# Altium integrated library Linear Technology Power Management uModule Regulators.IntLib: 166 symbols (part 39 of 67)
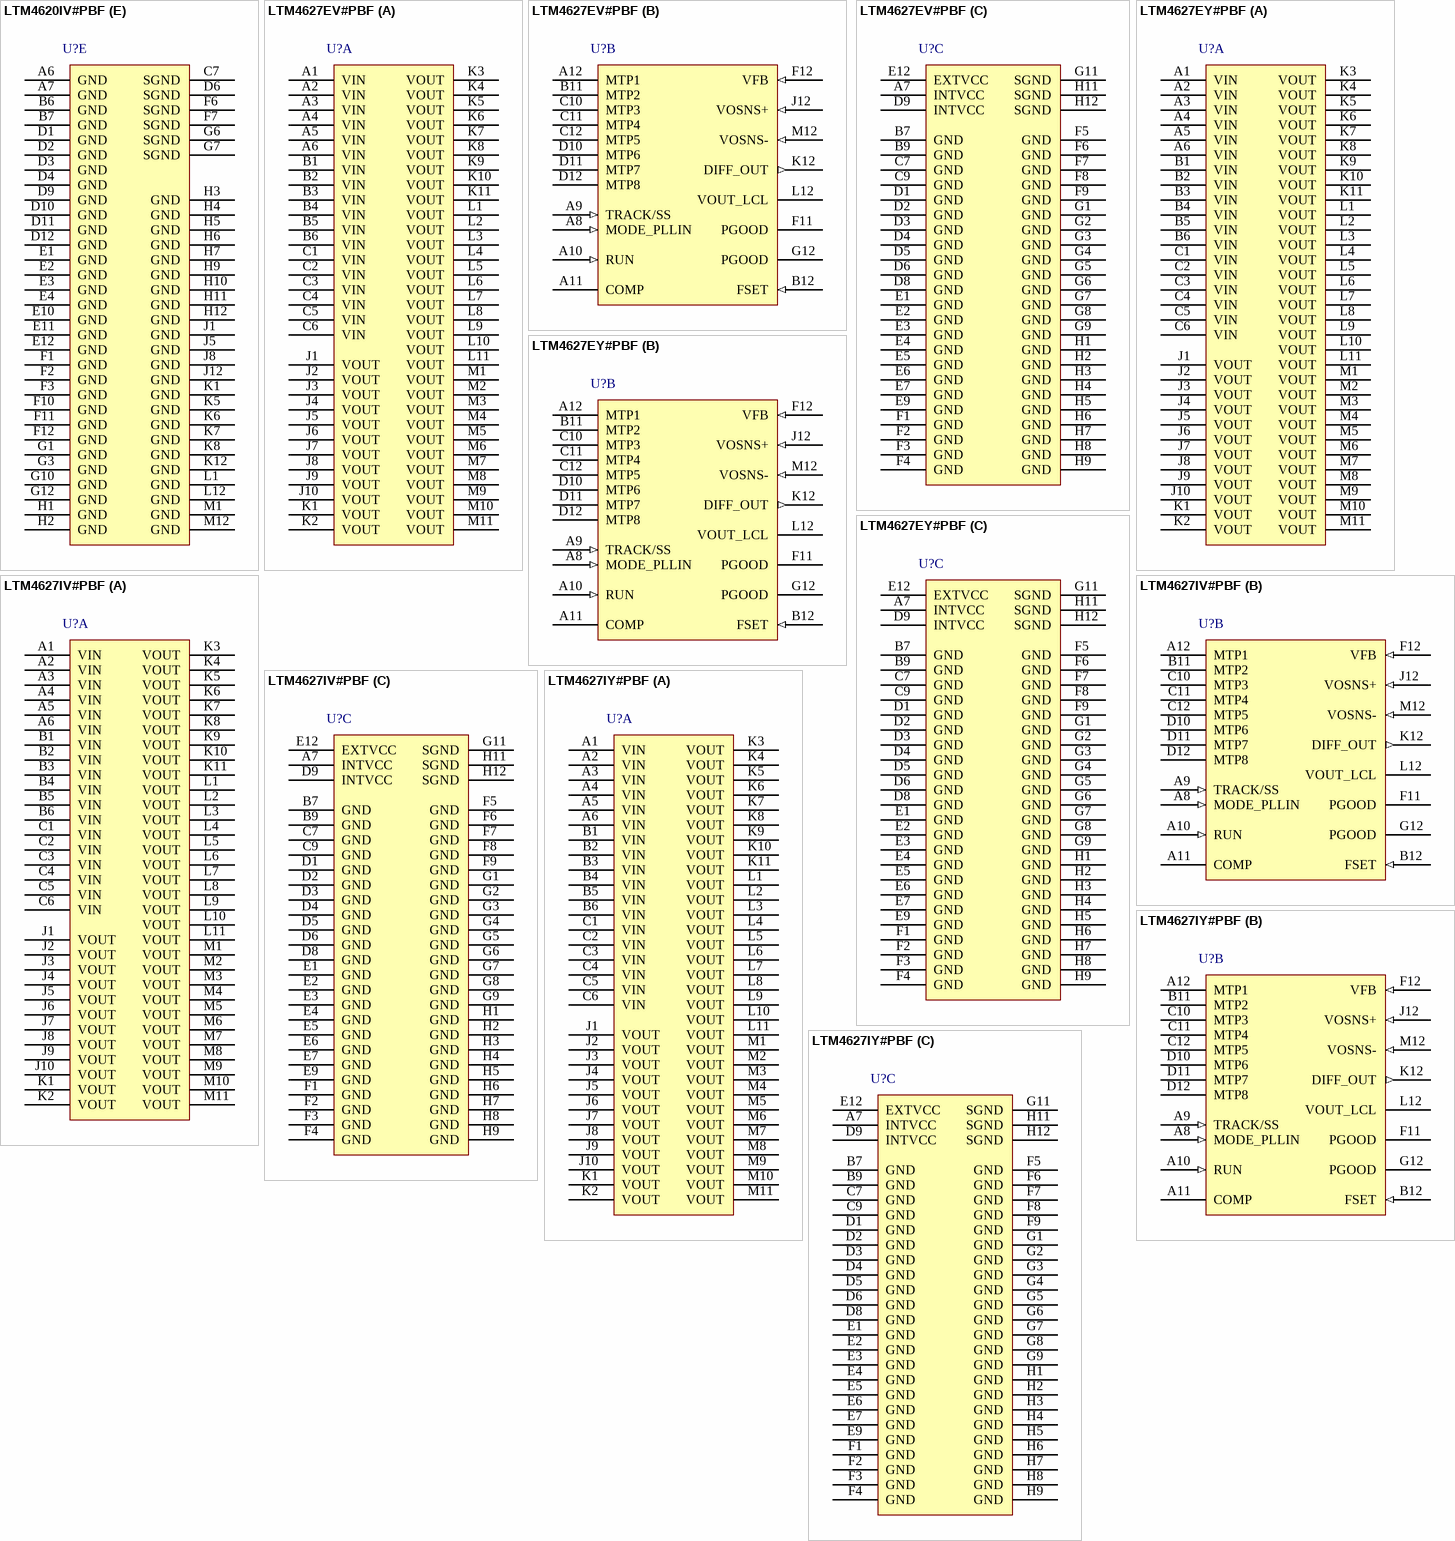
[diagram p65: symbols LTM4620IV#PBF to LTM4627IY#PBF]

## LTM4627IY#PBF
designator U?
15 A DC/DC uModule Regulator, 133-pin BGA, -40 to 125 degC, Pb-Free, Tray; Manufacturer: Linear Technology; PartNumber: LTM4627IY#PBF; Extended Temp: E, I, MP; Frequency Adjust Range: 250kHz - 800kHz; Frequency Sync Range: 400kHz - 800kHz; Frequency(kHz): 500; Ishutdown(uA): 40; Isupply(mA): 17; Number of Outputs: 1; Output Current(A): 15; Switch Current(A): 50; Synchronous: yes; Topology: Buck; Vin Max(V): 20; Vin Min(V): 4.5; Vout Max(V): 5; Vout Min(V): 0.6; DatasheetVersion: Rev. B; PackageVersion: Rev. A, 01/2013; PackageReference: BGA-133; PackageDescription: 133-Ball BGA, Body 15 x 15 mm, Pitch 1.27 mm; Supplier 1: Digi-Key; Supplier Part Number 1: LTM4627IY#PBF-ND; Supplier 2: Farnell; Supplier Part Number 2: 2068080; Supplier 3: Newark; Supplier Part Number 3: 78T3664; Packing: Tray; RoHS: TRUE; Mounting Technology: Surface Mount; Code_JEDEC: MS-028; ComponentLink1Description: Manufacturer URL; ComponentLink1URL: http://www.linear.com/; ComponentLink2Description: Datasheet; ComponentLink2URL: http://cds.linear.com/docs/en/datasheet/4627fb.pdf; ComponentLink3Description: Package Specification; ComponentLink3URL: http://cds.linear.com/docs/en/packaging/05081897_A_bga133.pdf
footprint LT-BGA-133-05-08-1897 (BGA, 133-Balls, Body 15x15mm, Pitch 1.27mm)
part A pins: A1 VIN (power) "Power Input Pins.", A2 VIN (power) "Power Input Pins.", A3 VIN (power) "Power Input Pins.", A4 VIN (power) "Power Input Pins.", A5 VIN (power) "Power Input Pins.", A6 VIN (power) "Power Input Pins.", B1 VIN (power) "Power Input Pins. Apply input voltage between these pins and GND pins.", B2 VIN (power) "Power Input Pins. Apply input voltage between these pins and GND pins.", B3 VIN (power) "Power Input Pins. Apply input voltage between these pins and GND pins.", B4 VIN (power) "Power Input Pins. Apply input voltage between these pins and GND pins.", B5 VIN (power) "Power Input Pins. Apply input voltage between these pins and GND pins.", B6 VIN (power) "Power Input Pins. Apply input voltage between these pins and GND pins.", C1 VIN (power) "Power Input Pins. Apply input voltage between these pins and GND pins.", C2 VIN (power) "Power Input Pins. Apply input voltage between these pins and GND pins.", C3 VIN (power) "Power Input Pins. Apply input voltage between these pins and GND pins.", C4 VIN (power) "Power Input Pins. Apply input voltage between these pins and GND pins.", C5 VIN (power) "Power Input Pins. Apply input voltage between these pins and GND pins.", C6 VIN (power) "Power Input Pins. Apply input voltage between these pins and GND pins.", J1 VOUT (power) "Power Output Pins. Apply output load between these pins and GND pins.", J2 VOUT (power) "Power Output Pins. Apply output load between these pins and GND pins.", J3 VOUT (power) "Power Output Pins. Apply output load between these pins and GND pins.", J4 VOUT (power) "Power Output Pins. Apply output load between these pins and GND pins.", J5 VOUT (power) "Power Output Pins. Apply output load between these pins and GND pins.", J6 VOUT (power) "Power Output Pins. Apply output load between these pins and GND pins.", J7 VOUT (power) "Power Output Pins. Apply output load between these pins and GND pins.", J8 VOUT (power) "Power Output Pins. Apply output load between these pins and GND pins.", J9 VOUT (power) "Power Output Pins. Apply output load between these pins and GND pins.", J10 VOUT (power) "Power Output Pins. Apply output load between these pins and GND pins.", K1 VOUT (power) "Power Output Pins. Apply output load between these pins and GND pins.", K2 VOUT (power) "Power Output Pins. Apply output load between these pins and GND pins.", K3 VOUT (power) "Power Output Pins. Apply output load between these pins and GND pins.", K4 VOUT (power) "Power Output Pins. Apply output load between these pins and GND pins.", K5 VOUT (power) "Power Output Pins. Apply output load between these pins and GND pins.", K6 VOUT (power) "Power Output Pins. Apply output load between these pins and GND pins.", K7 VOUT (power) "Power Output Pins. Apply output load between these pins and GND pins.", K8 VOUT (power) "Power Output Pins. Apply output load between these pins and GND pins.", K9 VOUT (power) "Power Output Pins. Apply output load between these pins and GND pins.", K10 VOUT (power) "Power Output Pins. Apply output load between these pins and GND pins.", K11 VOUT (power) "Power Output Pins. Apply output load between these pins and GND pins.", L1 VOUT (power) "Power Output Pins. Apply output load between these pins and GND pins.", L2 VOUT (power) "Power Output Pins. Apply output load between these pins and GND pins.", L3 VOUT (power) "Power Output Pins. Apply output load between these pins and GND pins.", L4 VOUT (power) "Power Output Pins. Apply output load between these pins and GND pins.", L5 VOUT (power) "Power Output Pins. Apply output load between these pins and GND pins.", L6 VOUT (power) "Power Output Pins. Apply output load between these pins and GND pins.", L7 VOUT (power) "Power Output Pins. Apply output load between these pins and GND pins.", L8 VOUT (power) "Power Output Pins. Apply output load between these pins and GND pins.", L9 VOUT (power) "Power Output Pins. Apply output load between these pins and GND pins.", L10 VOUT (power) "Power Output Pins. Apply output load between these pins and GND pins.", L11 VOUT (power) "Power Output Pins. Apply output load between these pins and GND pins.", M1 VOUT (power) "Power Output Pins. Apply output load between these pins and GND pins.", M2 VOUT (power) "Power Output Pins. Apply output load between these pins and GND pins.", M3 VOUT (power) "Power Output Pins. Apply output load between these pins and GND pins.", M4 VOUT (power) "Power Output Pins. Apply output load between these pins and GND pins.", M5 VOUT (power) "Power Output Pins. Apply output load between these pins and GND pins.", M6 VOUT (power) "Power Output Pins. Apply output load between these pins and GND pins.", M7 VOUT (power) "Power Output Pins. Apply output load between these pins and GND pins.", M8 VOUT (power) "Power Output Pins. Apply output load between these pins and GND pins.", M9 VOUT (power) "Power Output Pins. Apply output load between these pins and GND pins.", M10 VOUT (power) "Power Output Pins. Apply output load between these pins and GND pins.", M11 VOUT (power) "Power Output Pins. Apply output load between these pins and GND pins."
part B pins: A8 MODE_PLLIN (in) "Forced Continuous Mode, Burst Mode Operation, or Pulse-Skipping Mode Selection Pin and External Synchronization Input to Phase Detector Pin.", A9 TRACK/SS (in), A10 RUN (in) "Run Control Pin. A voltage above 1.4V will turn on the module. A 5.1V Zener diode to ground is internal to the module for limiting the voltage on the RUN pin to 5V, and allowing a pull up resistor to VIN for enabling the (See Datasheet)", A11 COMP "Current Control Threshold and Error Amplifier Compensation Point. The current comparator threshold increases with this control voltage. Tie all COMP pins together for parallel operation. The device is internally compensated.", A12 MTP1 "Extra mounting pads used for increased solder integrity strength.", B11 MTP2 "Extra mounting pads used for increased solder integrity strength.", B12 FSET (in) "A resistor can be applied from this pin to ground to set the operating frequency, or a DC voltage can be applied to set the frequency. See the Applications Information section.", C10 MTP3 "Extra mounting pads used for increased solder integrity strength.", C11 MTP4 "Extra mounting pads used for increased solder integrity strength.", C12 MTP5 "Extra mounting pads used for increased solder integrity strength.", D10 MTP6 "Extra mounting pads used for increased solder integrity strength.", D11 MTP7 "Extra mounting pads used for increased solder integrity strength.", D12 MTP8 "Extra mounting pads used for increased solder integrity strength.", F11 PGOOD (oc) "Output Voltage Power Good Indicator.", F12 VFB (in) "The Negative Input of the Error Amplifier. Internally, this pin is connected to VOUT_LCL with a 60.4k precision resistor. Different output voltages can be programmed with an additional resistor between the VFB and GND pins. (See Datasheet)", G12 PGOOD (oc) "Output Voltage Power Good Indicator.", J12 VOSNS+ (in) "(+) Input to the Remote Sense Amplifier. This pin connects to the output remote sense point. The remote sense amplifier is used for VOUT <= 3.3V. Connect to ground when not used.", K12 DIFF_OUT (out) "Output of the Remote Sense Amplifier. This pin connects to the VOUT_LCL pin for remote sense applications. Otherwise float when not used.", L12 VOUT_LCL "This pin connects to VOUT through a 1M resistor and to VFB with a 60.4k resistor. The remote sense amplifier output DIFFVOUT is connected to VOUT_LCL, and drives the 60.4k top feedback resistor in remote sensing applications.(See Datasheet)", M12 VOSNS- (in) "(-) Input to the Remote Sense Amplifier. This pin connects to the ground remote sense point. The remote sense amplifier is used for VOUT = 3.3V. Connect to ground when not used."
part C pins: A7 INTVCC (power) "Internal 5V LDO for Driving the Control Circuitry and the Power MOSFET Drivers. Both pins are internally connected.", B7 GND (power) "Power Ground Pins for Both Input and Output Returns.", B9 GND (power) "Power Ground Pins for Both Input and Output Returns.", C7 GND (power) "Power Ground Pins for Both Input and Output Returns.", C9 GND (power) "Power Ground Pins for Both Input and Output Returns.", D1 GND (power) "Power Ground Pins for Both Input and Output Returns.", D2 GND (power) "Power Ground Pins for Both Input and Output Returns.", D3 GND (power) "Power Ground Pins for Both Input and Output Returns.", D4 GND (power) "Power Ground Pins for Both Input and Output Returns.", D5 GND (power) "Power Ground Pins for Both Input and Output Returns.", D6 GND (power) "Power Ground Pins for Both Input and Output Returns.", D8 GND (power) "Power Ground Pins for Both Input and Output Returns.", D9 INTVCC (power) "Internal 5V LDO for Driving the Control Circuitry and the Power MOSFET Drivers. Both pins are internally connected.", E1 GND (power) "Power Ground Pins for Both Input and Output Returns.", E2 GND (power) "Power Ground Pins for Both Input and Output Returns.", E3 GND (power) "Power Ground Pins for Both Input and Output Returns.", E4 GND (power) "Power Ground Pins for Both Input and Output Returns.", E5 GND (power) "Power Ground Pins for Both Input and Output Returns.", E6 GND (power) "Power Ground Pins for Both Input and Output Returns.", E7 GND (power) "Power Ground Pins for Both Input and Output Returns.", E9 GND (power) "Power Ground Pins for Both Input and Output Returns.", E12 EXTVCC (power) "External power input to an internal control switch allows an external source greater than 4.7V, but less than 6V to supply IC power and bypass the internal INTVCC LDO. EXTVCC must be less than VIN at all times during (See Datasheet)", F1 GND (power) "Power Ground Pins for Both Input and Output Returns.", F2 GND (power) "Power Ground Pins for Both Input and Output Returns.", F3 GND (power) "Power Ground Pins for Both Input and Output Returns.", F4 GND (power) "Power Ground Pins for Both Input and Output Returns.", F5 GND (power) "Power Ground Pins for Both Input and Output Returns.", F6 GND (power) "Power Ground Pins for Both Input and Output Returns.", F7 GND (power) "Power Ground Pins for Both Input and Output Returns.", F8 GND (power) "Power Ground Pins for Both Input and Output Returns.", F9 GND (power) "Power Ground Pins for Both Input and Output Returns.", G1 GND (power) "Power Ground Pins for Both Input and Output Returns.", G2 GND (power) "Power Ground Pins for Both Input and Output Returns.", G3 GND (power) "Power Ground Pins for Both Input and Output Returns.", G4 GND (power) "Power Ground Pins for Both Input and Output Returns.", G5 GND (power) "Power Ground Pins for Both Input and Output Returns.", G6 GND (power) "Power Ground Pins for Both Input and Output Returns.", G7 GND (power) "Power Ground Pins for Both Input and Output Returns.", G8 GND (power) "Power Ground Pins for Both Input and Output Returns.", G9 GND (power) "Power Ground Pins for Both Input and Output Returns.", G11 SGND (power) "Signal Ground Pin. Return ground path for all analog and low power circuitry. Tie a single connection to the output capacitor GND in the application. See the layout guidelines in Figure 17.", H1 GND (power) "Power Ground Pins for Both Input and Output Returns.", H2 GND (power) "Power Ground Pins for Both Input and Output Returns.", H3 GND (power) "Power Ground Pins for Both Input and Output Returns.", H4 GND (power) "Power Ground Pins for Both Input and Output Returns.", H5 GND (power) "Power Ground Pins for Both Input and Output Returns.", H6 GND (power) "Power Ground Pins for Both Input and Output Returns.", H7 GND (power) "Power Ground Pins for Both Input and Output Returns.", H8 GND (power) "Power Ground Pins for Both Input and Output Returns.", H9 GND (power) "Power Ground Pins for Both Input and Output Returns.", H11 SGND (power) "Signal Ground Pin. Return ground path for all analog and low power circuitry. Tie a single connection to the output capacitor GND in the application. See the layout guidelines in Figure 17.", H12 SGND (power) "Signal Ground Pin. Return ground path for all analog and low power circuitry. Tie a single connection to the output capacitor GND in the application. See the layout guidelines in Figure 17."

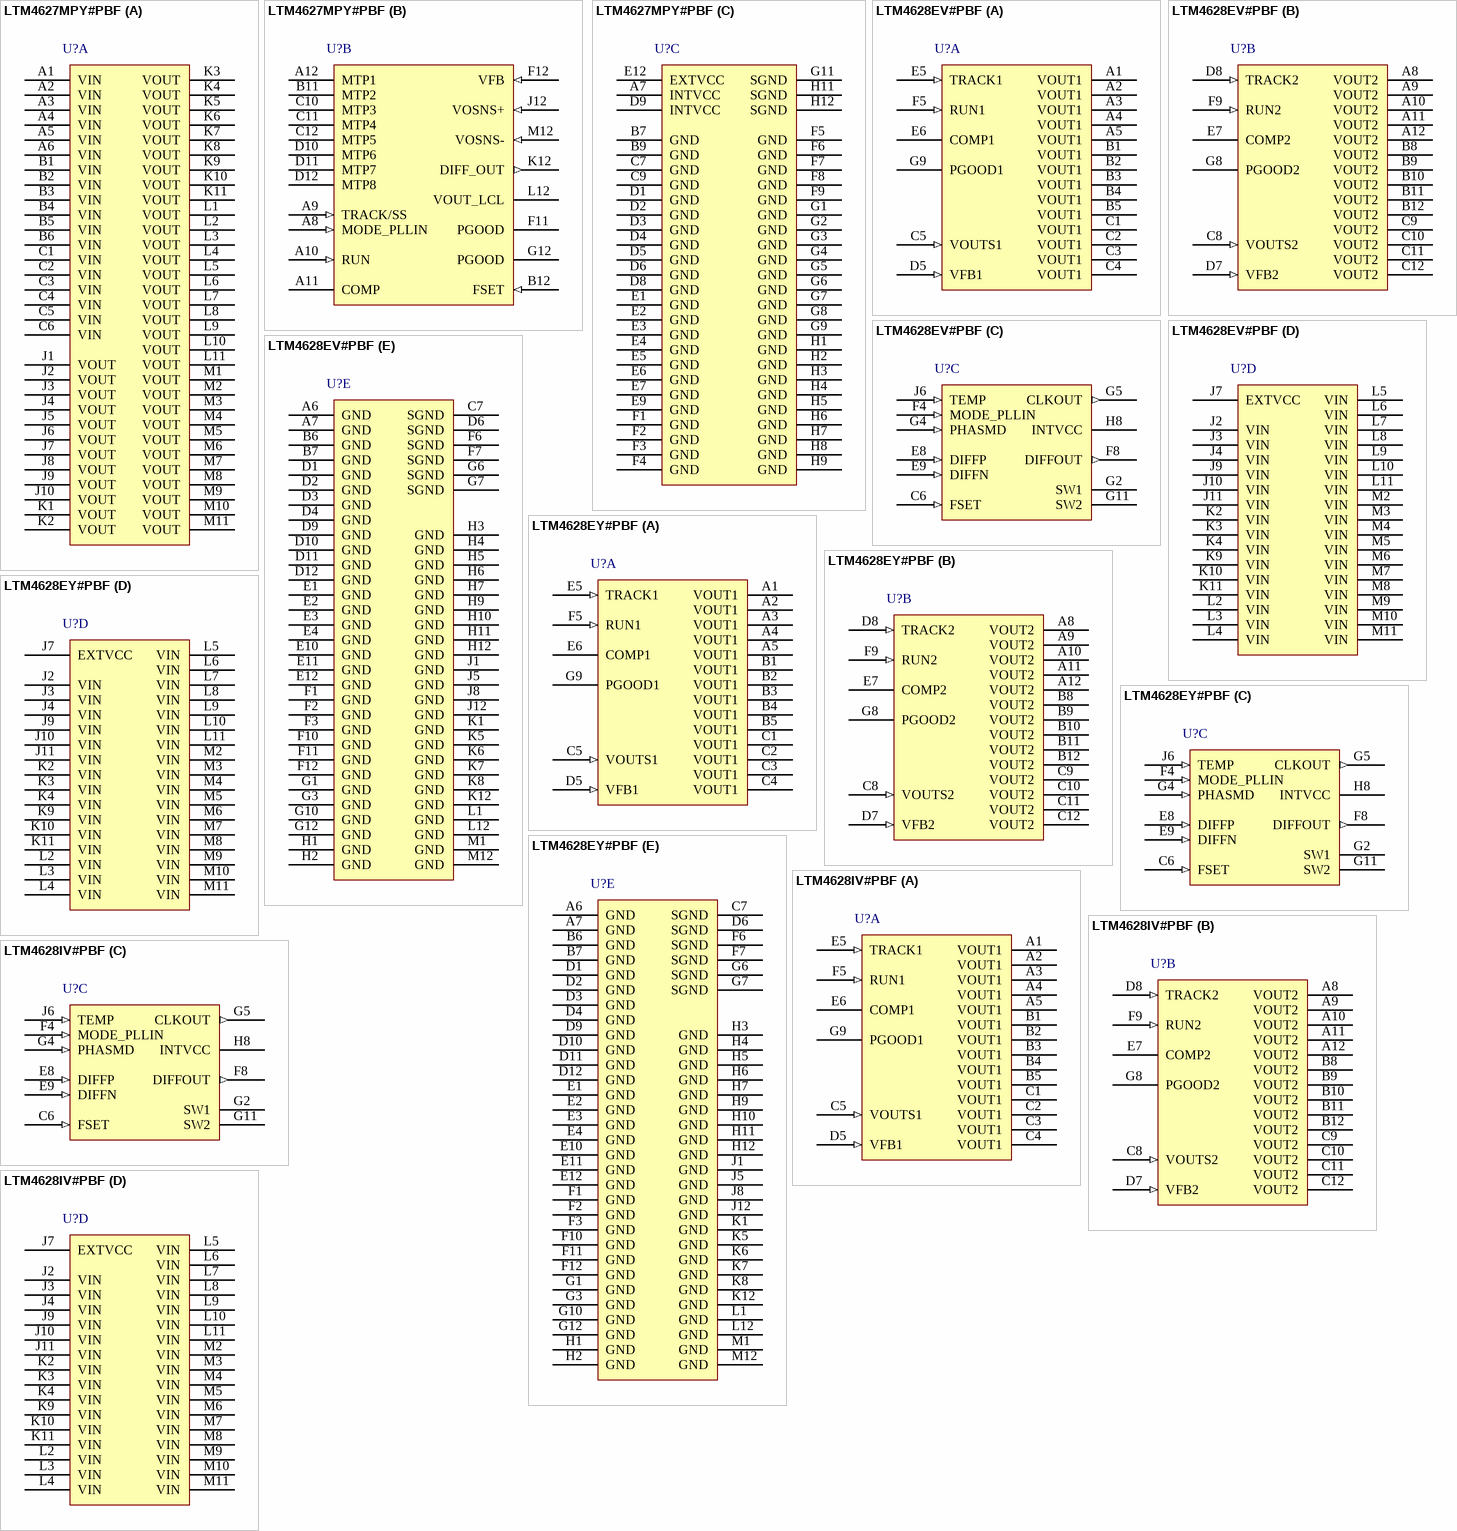
[diagram p18: symbols LTM4627MPY#PBF to LTM4628IV#PBF]

## LTM4627MPY#PBF
designator U?
15 A DC/DC uModule Regulator, 133-pin BGA, -55 to 125 degC, Pb-Free, Tray; Manufacturer: Linear Technology; PartNumber: LTM4627MPY#PBF; Extended Temp: E, I, MP; Frequency Adjust Range: 250kHz - 800kHz; Frequency Sync Range: 400kHz - 800kHz; Frequency(kHz): 500; Ishutdown(uA): 40; Isupply(mA): 17; Number of Outputs: 1; Output Current(A): 15; Switch Current(A): 50; Synchronous: yes; Topology: Buck; Vin Max(V): 20; Vin Min(V): 4.5; Vout Max(V): 5; Vout Min(V): 0.6; DatasheetVersion: Rev. B; PackageVersion: Rev. A, 01/2013; PackageReference: BGA-133; PackageDescription: 133-Ball BGA, Body 15 x 15 mm, Pitch 1.27 mm; Supplier 1: Digi-Key; Supplier Part Number 1: LTM4627MPY#PBF-ND; Supplier 2: Farnell; Supplier Part Number 2: 2068081; Supplier 3: Newark; Supplier Part Number 3: 78T3665; Packing: Tray; RoHS: TRUE; Mounting Technology: Surface Mount; Code_JEDEC: MS-028; ComponentLink1Description: Manufacturer URL; ComponentLink1URL: http://www.linear.com/; ComponentLink2Description: Datasheet; ComponentLink2URL: http://cds.linear.com/docs/en/datasheet/4627fb.pdf; ComponentLink3Description: Package Specification; ComponentLink3URL: http://cds.linear.com/docs/en/packaging/05081897_A_bga133.pdf
footprint LT-BGA-133-05-08-1897 (BGA, 133-Balls, Body 15x15mm, Pitch 1.27mm)
part A pins: A1 VIN (power) "Power Input Pins.", A2 VIN (power) "Power Input Pins.", A3 VIN (power) "Power Input Pins.", A4 VIN (power) "Power Input Pins.", A5 VIN (power) "Power Input Pins.", A6 VIN (power) "Power Input Pins.", B1 VIN (power) "Power Input Pins. Apply input voltage between these pins and GND pins.", B2 VIN (power) "Power Input Pins. Apply input voltage between these pins and GND pins.", B3 VIN (power) "Power Input Pins. Apply input voltage between these pins and GND pins.", B4 VIN (power) "Power Input Pins. Apply input voltage between these pins and GND pins.", B5 VIN (power) "Power Input Pins. Apply input voltage between these pins and GND pins.", B6 VIN (power) "Power Input Pins. Apply input voltage between these pins and GND pins.", C1 VIN (power) "Power Input Pins. Apply input voltage between these pins and GND pins.", C2 VIN (power) "Power Input Pins. Apply input voltage between these pins and GND pins.", C3 VIN (power) "Power Input Pins. Apply input voltage between these pins and GND pins.", C4 VIN (power) "Power Input Pins. Apply input voltage between these pins and GND pins.", C5 VIN (power) "Power Input Pins. Apply input voltage between these pins and GND pins.", C6 VIN (power) "Power Input Pins. Apply input voltage between these pins and GND pins.", J1 VOUT (power) "Power Output Pins. Apply output load between these pins and GND pins.", J2 VOUT (power) "Power Output Pins. Apply output load between these pins and GND pins.", J3 VOUT (power) "Power Output Pins. Apply output load between these pins and GND pins.", J4 VOUT (power) "Power Output Pins. Apply output load between these pins and GND pins.", J5 VOUT (power) "Power Output Pins. Apply output load between these pins and GND pins.", J6 VOUT (power) "Power Output Pins. Apply output load between these pins and GND pins.", J7 VOUT (power) "Power Output Pins. Apply output load between these pins and GND pins.", J8 VOUT (power) "Power Output Pins. Apply output load between these pins and GND pins.", J9 VOUT (power) "Power Output Pins. Apply output load between these pins and GND pins.", J10 VOUT (power) "Power Output Pins. Apply output load between these pins and GND pins.", K1 VOUT (power) "Power Output Pins. Apply output load between these pins and GND pins.", K2 VOUT (power) "Power Output Pins. Apply output load between these pins and GND pins.", K3 VOUT (power) "Power Output Pins. Apply output load between these pins and GND pins.", K4 VOUT (power) "Power Output Pins. Apply output load between these pins and GND pins.", K5 VOUT (power) "Power Output Pins. Apply output load between these pins and GND pins.", K6 VOUT (power) "Power Output Pins. Apply output load between these pins and GND pins.", K7 VOUT (power) "Power Output Pins. Apply output load between these pins and GND pins.", K8 VOUT (power) "Power Output Pins. Apply output load between these pins and GND pins.", K9 VOUT (power) "Power Output Pins. Apply output load between these pins and GND pins.", K10 VOUT (power) "Power Output Pins. Apply output load between these pins and GND pins.", K11 VOUT (power) "Power Output Pins. Apply output load between these pins and GND pins.", L1 VOUT (power) "Power Output Pins. Apply output load between these pins and GND pins.", L2 VOUT (power) "Power Output Pins. Apply output load between these pins and GND pins.", L3 VOUT (power) "Power Output Pins. Apply output load between these pins and GND pins.", L4 VOUT (power) "Power Output Pins. Apply output load between these pins and GND pins.", L5 VOUT (power) "Power Output Pins. Apply output load between these pins and GND pins.", L6 VOUT (power) "Power Output Pins. Apply output load between these pins and GND pins.", L7 VOUT (power) "Power Output Pins. Apply output load between these pins and GND pins.", L8 VOUT (power) "Power Output Pins. Apply output load between these pins and GND pins.", L9 VOUT (power) "Power Output Pins. Apply output load between these pins and GND pins.", L10 VOUT (power) "Power Output Pins. Apply output load between these pins and GND pins.", L11 VOUT (power) "Power Output Pins. Apply output load between these pins and GND pins.", M1 VOUT (power) "Power Output Pins. Apply output load between these pins and GND pins.", M2 VOUT (power) "Power Output Pins. Apply output load between these pins and GND pins.", M3 VOUT (power) "Power Output Pins. Apply output load between these pins and GND pins.", M4 VOUT (power) "Power Output Pins. Apply output load between these pins and GND pins.", M5 VOUT (power) "Power Output Pins. Apply output load between these pins and GND pins.", M6 VOUT (power) "Power Output Pins. Apply output load between these pins and GND pins.", M7 VOUT (power) "Power Output Pins. Apply output load between these pins and GND pins.", M8 VOUT (power) "Power Output Pins. Apply output load between these pins and GND pins.", M9 VOUT (power) "Power Output Pins. Apply output load between these pins and GND pins.", M10 VOUT (power) "Power Output Pins. Apply output load between these pins and GND pins.", M11 VOUT (power) "Power Output Pins. Apply output load between these pins and GND pins."
part B pins: A8 MODE_PLLIN (in) "Forced Continuous Mode, Burst Mode Operation, or Pulse-Skipping Mode Selection Pin and External Synchronization Input to Phase Detector Pin.", A9 TRACK/SS (in), A10 RUN (in) "Run Control Pin. A voltage above 1.4V will turn on the module. A 5.1V Zener diode to ground is internal to the module for limiting the voltage on the RUN pin to 5V, and allowing a pull up resistor to VIN for enabling the (See Datasheet)", A11 COMP "Current Control Threshold and Error Amplifier Compensation Point. The current comparator threshold increases with this control voltage. Tie all COMP pins together for parallel operation. The device is internally compensated.", A12 MTP1 "Extra mounting pads used for increased solder integrity strength.", B11 MTP2 "Extra mounting pads used for increased solder integrity strength.", B12 FSET (in) "A resistor can be applied from this pin to ground to set the operating frequency, or a DC voltage can be applied to set the frequency. See the Applications Information section.", C10 MTP3 "Extra mounting pads used for increased solder integrity strength.", C11 MTP4 "Extra mounting pads used for increased solder integrity strength.", C12 MTP5 "Extra mounting pads used for increased solder integrity strength.", D10 MTP6 "Extra mounting pads used for increased solder integrity strength.", D11 MTP7 "Extra mounting pads used for increased solder integrity strength.", D12 MTP8 "Extra mounting pads used for increased solder integrity strength.", F11 PGOOD (oc) "Output Voltage Power Good Indicator.", F12 VFB (in) "The Negative Input of the Error Amplifier. Internally, this pin is connected to VOUT_LCL with a 60.4k precision resistor. Different output voltages can be programmed with an additional resistor between the VFB and GND pins. (See Datasheet)", G12 PGOOD (oc) "Output Voltage Power Good Indicator.", J12 VOSNS+ (in) "(+) Input to the Remote Sense Amplifier. This pin connects to the output remote sense point. The remote sense amplifier is used for VOUT <= 3.3V. Connect to ground when not used.", K12 DIFF_OUT (out) "Output of the Remote Sense Amplifier. This pin connects to the VOUT_LCL pin for remote sense applications. Otherwise float when not used.", L12 VOUT_LCL "This pin connects to VOUT through a 1M resistor and to VFB with a 60.4k resistor. The remote sense amplifier output DIFFVOUT is connected to VOUT_LCL, and drives the 60.4k top feedback resistor in remote sensing applications.(See Datasheet)", M12 VOSNS- (in) "(-) Input to the Remote Sense Amplifier. This pin connects to the ground remote sense point. The remote sense amplifier is used for VOUT = 3.3V. Connect to ground when not used."
part C pins: A7 INTVCC (power) "Internal 5V LDO for Driving the Control Circuitry and the Power MOSFET Drivers. Both pins are internally connected.", B7 GND (power) "Power Ground Pins for Both Input and Output Returns.", B9 GND (power) "Power Ground Pins for Both Input and Output Returns.", C7 GND (power) "Power Ground Pins for Both Input and Output Returns.", C9 GND (power) "Power Ground Pins for Both Input and Output Returns.", D1 GND (power) "Power Ground Pins for Both Input and Output Returns.", D2 GND (power) "Power Ground Pins for Both Input and Output Returns.", D3 GND (power) "Power Ground Pins for Both Input and Output Returns.", D4 GND (power) "Power Ground Pins for Both Input and Output Returns.", D5 GND (power) "Power Ground Pins for Both Input and Output Returns.", D6 GND (power) "Power Ground Pins for Both Input and Output Returns.", D8 GND (power) "Power Ground Pins for Both Input and Output Returns.", D9 INTVCC (power) "Internal 5V LDO for Driving the Control Circuitry and the Power MOSFET Drivers. Both pins are internally connected.", E1 GND (power) "Power Ground Pins for Both Input and Output Returns.", E2 GND (power) "Power Ground Pins for Both Input and Output Returns.", E3 GND (power) "Power Ground Pins for Both Input and Output Returns.", E4 GND (power) "Power Ground Pins for Both Input and Output Returns.", E5 GND (power) "Power Ground Pins for Both Input and Output Returns.", E6 GND (power) "Power Ground Pins for Both Input and Output Returns.", E7 GND (power) "Power Ground Pins for Both Input and Output Returns.", E9 GND (power) "Power Ground Pins for Both Input and Output Returns.", E12 EXTVCC (power) "External power input to an internal control switch allows an external source greater than 4.7V, but less than 6V to supply IC power and bypass the internal INTVCC LDO. EXTVCC must be less than VIN at all times during (See Datasheet)", F1 GND (power) "Power Ground Pins for Both Input and Output Returns.", F2 GND (power) "Power Ground Pins for Both Input and Output Returns.", F3 GND (power) "Power Ground Pins for Both Input and Output Returns.", F4 GND (power) "Power Ground Pins for Both Input and Output Returns.", F5 GND (power) "Power Ground Pins for Both Input and Output Returns.", F6 GND (power) "Power Ground Pins for Both Input and Output Returns.", F7 GND (power) "Power Ground Pins for Both Input and Output Returns.", F8 GND (power) "Power Ground Pins for Both Input and Output Returns.", F9 GND (power) "Power Ground Pins for Both Input and Output Returns.", G1 GND (power) "Power Ground Pins for Both Input and Output Returns.", G2 GND (power) "Power Ground Pins for Both Input and Output Returns.", G3 GND (power) "Power Ground Pins for Both Input and Output Returns.", G4 GND (power) "Power Ground Pins for Both Input and Output Returns.", G5 GND (power) "Power Ground Pins for Both Input and Output Returns.", G6 GND (power) "Power Ground Pins for Both Input and Output Returns.", G7 GND (power) "Power Ground Pins for Both Input and Output Returns.", G8 GND (power) "Power Ground Pins for Both Input and Output Returns.", G9 GND (power) "Power Ground Pins for Both Input and Output Returns.", G11 SGND (power) "Signal Ground Pin. Return ground path for all analog and low power circuitry. Tie a single connection to the output capacitor GND in the application. See the layout guidelines in Figure 17.", H1 GND (power) "Power Ground Pins for Both Input and Output Returns.", H2 GND (power) "Power Ground Pins for Both Input and Output Returns.", H3 GND (power) "Power Ground Pins for Both Input and Output Returns.", H4 GND (power) "Power Ground Pins for Both Input and Output Returns.", H5 GND (power) "Power Ground Pins for Both Input and Output Returns.", H6 GND (power) "Power Ground Pins for Both Input and Output Returns.", H7 GND (power) "Power Ground Pins for Both Input and Output Returns.", H8 GND (power) "Power Ground Pins for Both Input and Output Returns.", H9 GND (power) "Power Ground Pins for Both Input and Output Returns.", H11 SGND (power) "Signal Ground Pin. Return ground path for all analog and low power circuitry. Tie a single connection to the output capacitor GND in the application. See the layout guidelines in Figure 17.", H12 SGND (power) "Signal Ground Pin. Return ground path for all analog and low power circuitry. Tie a single connection to the output capacitor GND in the application. See the layout guidelines in Figure 17."

## LTM4628EV#PBF
designator U?
Dual 8 A or Single 16 A DC/DC uModule Regulator, 144-pin BGA, -40 to 125 degC, Pb-Free, Tray; Manufacturer: Linear Technology; PartNumber: LTM4628EV#PBF; Extended Temp: E, I; Frequency Adjust Range: 250kHz - 780kHz; Frequency Sync Range: 400kHz - 780kHz; Frequency(kHz): 780; Ishutdown(uA): 60; Isupply(mA): 5; Number of Outputs: 1 or 2; Output Current(A): 8 or 16; Switch Current(A): 15 or 30; Synchronous: yes; Topology: Buck; Vin Max(V): 26.5; Vin Min(V): 4.5; Vout Max(V): 5.5; Vout Min(V): 0.6; DatasheetVersion: Rev. D; PackageVersion: Rev. A, 01/2013; PackageReference: LGA-144; PackageDescription: 144-Pin LGA, Body 15 x 15 mm, Pitch 1.27 mm; Supplier 1: Digi-Key; Supplier Part Number 1: LTM4628EV#PBF-ND; Supplier 2: Farnell; Supplier Part Number 2: 1865700; Supplier 3: Farnell; Supplier Part Number 3: 2118790; Supplier 4: Newark; Supplier Part Number 4: 20T5704; Packing: Tray; RoHS: TRUE; Tracking: yes; Mounting Technology: Surface Mount; Code_JEDEC: MO-222; ComponentLink1Description: Manufacturer URL; ComponentLink1URL: http://www.linear.com/; ComponentLink2Description: Datasheet; ComponentLink2URL: http://cds.linear.com/docs/en/datasheet/4628fd.pdf; ComponentLink3Description: Package Specification; ComponentLink3URL: http://cds.linear.com/docs/en/packaging/05081843_A_lga144.pdf
footprint LT-LGA-144-05-08-1843_V (LGA, 144-Leads, Body 15x15mm, Pitch 1.27mm)
part A pins: A1 VOUT1 (power) "Power Output Pins. Apply output load between these pins and GND pins. Recommend placing output decoupling capacitance directly between these pins and GND pins.", A2 VOUT1 (power) "Power Output Pins. Apply output load between these pins and GND pins. Recommend placing output decoupling capacitance directly between these pins and GND pins.", A3 VOUT1 (power) "Power Output Pins. Apply output load between these pins and GND pins. Recommend placing output decoupling capacitance directly between these pins and GND pins.", A4 VOUT1 (power) "Power Output Pins. Apply output load between these pins and GND pins. Recommend placing output decoupling capacitance directly between these pins and GND pins.", A5 VOUT1 (power) "Power Output Pins. Apply output load between these pins and GND pins. Recommend placing output decoupling capacitance directly between these pins and GND pins.", B1 VOUT1 (power) "Power Output Pins. Apply output load between these pins and GND pins. Recommend placing output decoupling capacitance directly between these pins and GND pins.", B2 VOUT1 (power) "Power Output Pins. Apply output load between these pins and GND pins. Recommend placing output decoupling capacitance directly between these pins and GND pins.", B3 VOUT1 (power) "Power Output Pins. Apply output load between these pins and GND pins. Recommend placing output decoupling capacitance directly between these pins and GND pins.", B4 VOUT1 (power) "Power Output Pins. Apply output load between these pins and GND pins. Recommend placing output decoupling capacitance directly between these pins and GND pins.", B5 VOUT1 (power) "Power Output Pins. Apply output load between these pins and GND pins. Recommend placing output decoupling capacitance directly between these pins and GND pins.", C1 VOUT1 (power) "Power Output Pins. Apply output load between these pins and GND pins. Recommend placing output decoupling capacitance directly between these pins and GND pins.", C2 VOUT1 (power) "Power Output Pins. Apply output load between these pins and GND pins. Recommend placing output decoupling capacitance directly between these pins and GND pins.", C3 VOUT1 (power) "Power Output Pins. Apply output load between these pins and GND pins. Recommend placing output decoupling capacitance directly between these pins and GND pins.", C4 VOUT1 (power) "Power Output Pins. Apply output load between these pins and GND pins. Recommend placing output decoupling capacitance directly between these pins and GND pins.", C5 VOUTS1 (in) "This pin is connected to the top of the internal top feedback resistor for each output. The pin can be directly connected to its specific output, or connected to DIFFOUT when the remote sense amplifier is used. In (See Datasheet)", D5 VFB1 (in) "The Negative Input of the Error Amplifier for Each Channel. Internally, this pin is connected to VOUTS1 or VOUTS2 with a 60.4kohm precision resistor. Different output voltages can be programmed with an additional resistor (See Datasheet)", E5 TRACK1 (in) "Output Voltage Tracking Pin and Soft-Start Inputs. Each channel has a 1.3uA pull-up current source. When one channel is configured to be master of the two channels, then a capacitor from this pin to ground will set a (See Datasheet)", E6 COMP1 "Current control threshold and error amplifier compensation point for each channel. The current comparator threshold increases with this control voltage. Tie the COMP pins together for parallel operation. The device is (See Datasheet)", F5 RUN1 (in) "Run Control Pin. A voltage above 1.25V will turn on each channel in the module. A voltage below 1.25V on the RUN pin will turn off the related channel. Each RUN pin has a 1uA pull-up current, once the RUN pin reaches 1.2V an (See Datasheet)", G9 PGOOD1 (oc) "Output Voltage Power Good Indicator."
part B pins: A8 VOUT2 (power) "Power Output Pins. Apply output load between these pins and GND pins. Recommend placing output decoupling capacitance directly between these pins and GND pins.", A9 VOUT2 (power) "Power Output Pins. Apply output load between these pins and GND pins. Recommend placing output decoupling capacitance directly between these pins and GND pins.", A10 VOUT2 (power) "Power Output Pins. Apply output load between these pins and GND pins. Recommend placing output decoupling capacitance directly between these pins and GND pins.", A11 VOUT2 (power) "Power Output Pins. Apply output load between these pins and GND pins. Recommend placing output decoupling capacitance directly between these pins and GND pins.", A12 VOUT2 (power) "Power Output Pins. Apply output load between these pins and GND pins. Recommend placing output decoupling capacitance directly between these pins and GND pins.", B8 VOUT2 (power) "Power Output Pins. Apply output load between these pins and GND pins. Recommend placing output decoupling capacitance directly between these pins and GND pins.", B9 VOUT2 (power) "Power Output Pins. Apply output load between these pins and GND pins. Recommend placing output decoupling capacitance directly between these pins and GND pins.", B10 VOUT2 (power) "Power Output Pins. Apply output load between these pins and GND pins. Recommend placing output decoupling capacitance directly between these pins and GND pins.", B11 VOUT2 (power) "Power Output Pins. Apply output load between these pins and GND pins. Recommend placing output decoupling capacitance directly between these pins and GND pins.", B12 VOUT2 (power) "Power Output Pins. Apply output load between these pins and GND pins. Recommend placing output decoupling capacitance directly between these pins and GND pins.", C8 VOUTS2 (in) "This pin is connected to the top of the internal top feedback resistor for each output. The pin can be directly connected to its specific output, or connected to DIFFOUT when the remote sense amplifier is used. In (See Datasheet)", C9 VOUT2 (power) "Power Output Pins. Apply output load between these pins and GND pins. Recommend placing output decoupling capacitance directly between these pins and GND pins.", C10 VOUT2 (power) "Power Output Pins. Apply output load between these pins and GND pins. Recommend placing output decoupling capacitance directly between these pins and GND pins.", C11 VOUT2 (power) "Power Output Pins. Apply output load between these pins and GND pins. Recommend placing output decoupling capacitance directly between these pins and GND pins.", C12 VOUT2 (power) "Power Output Pins. Apply output load between these pins and GND pins. Recommend placing output decoupling capacitance directly between these pins and GND pins.", D7 VFB2 (in) "The Negative Input of the Error Amplifier for Each Channel. Internally, this pin is connected to VOUTS1 or VOUTS2 with a 60.4kohm precision resistor. Different output voltages can be programmed with an additional resistor (See Datasheet)", D8 TRACK2 (in) "Output Voltage Tracking Pin and Soft-Start Inputs. Each channel has a 1.3uA pull-up current source. When one channel is configured to be master of the two channels, then a capacitor from this pin to ground will set a (See Datasheet)", E7 COMP2 "Current control threshold and error amplifier compensation point for each channel. The current comparator threshold increases with this control voltage. Tie the COMP pins together for parallel operation. The device is (See Datasheet)", F9 RUN2 (in) "Run Control Pin. A voltage above 1.25V will turn on each channel in the module. A voltage below 1.25V on the RUN pin will turn off the related channel. Each RUN pin has a 1uA pull-up current, once the RUN pin reaches 1.2V an (See Datasheet)", G8 PGOOD2 (oc) "Output Voltage Power Good Indicator."
part C pins: C6 FSET (in) "Frequency Set Pin. A 10uA current is sourced from this pin. A resistor from this pin to ground sets a voltage that in turn programs the operating frequency. Alternatively, this pin can be driven with a DC voltage that can (See Datasheet)", E8 DIFFP (in) "Positive input of the remote sense amplifier. This pin is connected to the remote sense point of the output voltage. See the Applications Information section.", E9 DIFFN (in) "Negative input of the remote sense amplifier. This pin is connected to the remote sense point of the output GND. See the Applications Information section.", F4 MODE_PLLIN (in) "Force Continuous Mode, Burst Mode Operation, or Pulse-Skipping Mode Selection Pin and External Synchronization Input to Phase Detector Pin. Connect this pin to SGND to force both channels into force continuous mode of (See Datasheet)", F8 DIFFOUT (out) "Internal Remote Sense Amplifier Output. Connect this pin to VOUTS1 or VOUTS2 depending on which output is using remote sense. In parallel operation connect one of the VOUTS pin to DIFFOUT for remote sensing.", G2 SW1 "Switching node of each channel that is used for testing purposes. Also an R-C snubber network can be applied to reduce or eliminate switch node ringing, or otherwise leave floating. See the Applications Information section.", G4 PHASMD (in) "Connect this pin to SGND, INTVCC, or floating this pin to select the phase of CLKOUT to 60 degrees, 120 degrees, and 90 degrees respectively.", G5 CLKOUT (out) "Clock output with phase control using the PHASMD pin to enable multiphase operation between devices. See the Applications Information section.", G11 SW2 "Switching node of each channel that is used for testing purposes. Also an R-C snubber network can be applied to reduce or eliminate switch node ringing, or otherwise leave floating. See the Applications Information section.", H8 INTVCC (power) "Internal 5V Regulator Output. The control circuits and internal gate drivers are powered from this voltage. Decouple this pin to PGND with a 4.7uF low ESR tantalum or ceramic. INTVCC is activated when either RUN1 or RUN2 is (See Datasheet)", J6 TEMP (in) "Onboard Temperature Diode for Monitoring the VBE Junction Voltage Change with Temperature. See the Applications Information section."
part D pins: J2 VIN (power) "Power Input Pins. Apply input voltage between these pins and GND pins. Recommend placing input decoupling capacitance directly between VIN pins and GND pins.", J3 VIN (power) "Power Input Pins. Apply input voltage between these pins and GND pins. Recommend placing input decoupling capacitance directly between VIN pins and GND pins.", J4 VIN (power) "Power Input Pins. Apply input voltage between these pins and GND pins. Recommend placing input decoupling capacitance directly between VIN pins and GND pins.", J7 EXTVCC (power) "External power input that is enabled through a switch to INTVCC whenever EXTVCC is greater than 4.7V. Do not exceed 6V on this input, and connect this pin to VIN when operating VIN on 5V. An efficiency increase will occur (See Datasheet)", J9 VIN (power) "Power Input Pins. Apply input voltage between these pins and GND pins. Recommend placing input decoupling capacitance directly between VIN pins and GND pins.", J10 VIN (power) "Power Input Pins. Apply input voltage between these pins and GND pins. Recommend placing input decoupling capacitance directly between VIN pins and GND pins.", J11 VIN (power) "Power Input Pins. Apply input voltage between these pins and GND pins. Recommend placing input decoupling capacitance directly between VIN pins and GND pins.", K2 VIN (power) "Power Input Pins. Apply input voltage between these pins and GND pins. Recommend placing input decoupling capacitance directly between VIN pins and GND pins.", K3 VIN (power) "Power Input Pins. Apply input voltage between these pins and GND pins. Recommend placing input decoupling capacitance directly between VIN pins and GND pins.", K4 VIN (power) "Power Input Pins. Apply input voltage between these pins and GND pins. Recommend placing input decoupling capacitance directly between VIN pins and GND pins.", K9 VIN (power) "Power Input Pins. Apply input voltage between these pins and GND pins. Recommend placing input decoupling capacitance directly between VIN pins and GND pins.", K10 VIN (power) "Power Input Pins. Apply input voltage between these pins and GND pins. Recommend placing input decoupling capacitance directly between VIN pins and GND pins.", K11 VIN (power) "Power Input Pins. Apply input voltage between these pins and GND pins. Recommend placing input decoupling capacitance directly between VIN pins and GND pins.", L2 VIN (power) "Power Input Pins. Apply input voltage between these pins and GND pins. Recommend placing input decoupling capacitance directly between VIN pins and GND pins.", L3 VIN (power) "Power Input Pins. Apply input voltage between these pins and GND pins. Recommend placing input decoupling capacitance directly between VIN pins and GND pins.", L4 VIN (power) "Power Input Pins. Apply input voltage between these pins and GND pins. Recommend placing input decoupling capacitance directly between VIN pins and GND pins.", L5 VIN (power) "Power Input Pins. Apply input voltage between these pins and GND pins. Recommend placing input decoupling capacitance directly between VIN pins and GND pins.", L6 VIN (power) "Power Input Pins. Apply input voltage between these pins and GND pins. Recommend placing input decoupling capacitance directly between VIN pins and GND pins.", L7 VIN (power) "Power Input Pins. Apply input voltage between these pins and GND pins. Recommend placing input decoupling capacitance directly between VIN pins and GND pins.", L8 VIN (power) "Power Input Pins. Apply input voltage between these pins and GND pins. Recommend placing input decoupling capacitance directly between VIN pins and GND pins.", L9 VIN (power) "Power Input Pins. Apply input voltage between these pins and GND pins. Recommend placing input decoupling capacitance directly between VIN pins and GND pins.", L10 VIN (power) "Power Input Pins. Apply input voltage between these pins and GND pins. Recommend placing input decoupling capacitance directly between VIN pins and GND pins.", L11 VIN (power) "Power Input Pins. Apply input voltage between these pins and GND pins. Recommend placing input decoupling capacitance directly between VIN pins and GND pins.", M2 VIN (power) "Power Input Pins. Apply input voltage between these pins and GND pins. Recommend placing input decoupling capacitance directly between VIN pins and GND pins.", M3 VIN (power) "Power Input Pins. Apply input voltage between these pins and GND pins. Recommend placing input decoupling capacitance directly between VIN pins and GND pins.", M4 VIN (power) "Power Input Pins. Apply input voltage between these pins and GND pins. Recommend placing input decoupling capacitance directly between VIN pins and GND pins.", M5 VIN (power) "Power Input Pins. Apply input voltage between these pins and GND pins. Recommend placing input decoupling capacitance directly between VIN pins and GND pins.", M6 VIN (power) "Power Input Pins. Apply input voltage between these pins and GND pins. Recommend placing input decoupling capacitance directly between VIN pins and GND pins.", M7 VIN (power) "Power Input Pins. Apply input voltage between these pins and GND pins. Recommend placing input decoupling capacitance directly between VIN pins and GND pins.", M8 VIN (power) "Power Input Pins. Apply input voltage between these pins and GND pins. Recommend placing input decoupling capacitance directly between VIN pins and GND pins.", M9 VIN (power) "Power Input Pins. Apply input voltage between these pins and GND pins. Recommend placing input decoupling capacitance directly between VIN pins and GND pins.", M10 VIN (power) "Power Input Pins. Apply input voltage between these pins and GND pins. Recommend placing input decoupling capacitance directly between VIN pins and GND pins.", M11 VIN (power) "Power Input Pins. Apply input voltage between these pins and GND pins. Recommend placing input decoupling capacitance directly between VIN pins and GND pins."
part E pins: A6 GND (power) "Power Ground Pins for Both Input and Output Returns.", A7 GND (power) "Power Ground Pins for Both Input and Output Returns.", B6 GND (power) "Power Ground Pins for Both Input and Output Returns.", B7 GND (power) "Power Ground Pins for Both Input and Output Returns.", C7 SGND (power) "Signal Ground Pin. Return ground path for all analog and low power circuitry. Tie a single connection to the output capacitor GND in the application.", D1 GND (power) "Power Ground Pins for Both Input and Output Returns.", D2 GND (power) "Power Ground Pins for Both Input and Output Returns.", D3 GND (power) "Power Ground Pins for Both Input and Output Returns.", D4 GND (power) "Power Ground Pins for Both Input and Output Returns.", D6 SGND (power) "Signal Ground Pin. Return ground path for all analog and low power circuitry. Tie a single connection to the output capacitor GND in the application.", D9 GND (power) "Power Ground Pins for Both Input and Output Returns.", D10 GND (power) "Power Ground Pins for Both Input and Output Returns.", D11 GND (power) "Power Ground Pins for Both Input and Output Returns.", D12 GND (power) "Power Ground Pins for Both Input and Output Returns.", E1 GND (power) "Power Ground Pins for Both Input and Output Returns.", E2 GND (power) "Power Ground Pins for Both Input and Output Returns.", E3 GND (power) "Power Ground Pins for Both Input and Output Returns.", E4 GND (power) "Power Ground Pins for Both Input and Output Returns.", E10 GND (power) "Power Ground Pins for Both Input and Output Returns.", E11 GND (power) "Power Ground Pins for Both Input and Output Returns.", E12 GND (power) "Power Ground Pins for Both Input and Output Returns.", F1 GND (power) "Power Ground Pins for Both Input and Output Returns.", F2 GND (power) "Power Ground Pins for Both Input and Output Returns.", F3 GND (power) "Power Ground Pins for Both Input and Output Returns.", F6 SGND (power) "Signal Ground Pin. Return ground path for all analog and low power circuitry. Tie a single connection to the output capacitor GND in the application.", F7 SGND (power) "Signal Ground Pin. Return ground path for all analog and low power circuitry. Tie a single connection to the output capacitor GND in the application.", F10 GND (power) "Power Ground Pins for Both Input and Output Returns.", F11 GND (power) "Power Ground Pins for Both Input and Output Returns.", F12 GND (power) "Power Ground Pins for Both Input and Output Returns.", G1 GND (power) "Power Ground Pins for Both Input and Output Returns.", G3 GND (power) "Power Ground Pins for Both Input and Output Returns.", G6 SGND (power) "Signal Ground Pin. Return ground path for all analog and low power circuitry. Tie a single connection to the output capacitor GND in the application.", G7 SGND (power) "Signal Ground Pin. Return ground path for all analog and low power circuitry. Tie a single connection to the output capacitor GND in the application.", G10 GND (power) "Power Ground Pins for Both Input and Output Returns.", G12 GND (power) "Power Ground Pins for Both Input and Output Returns.", H1 GND (power) "Power Ground Pins for Both Input and Output Returns.", H2 GND (power) "Power Ground Pins for Both Input and Output Returns.", H3 GND (power) "Power Ground Pins for Both Input and Output Returns.", H4 GND (power) "Power Ground Pins for Both Input and Output Returns.", H5 GND (power) "Power Ground Pins for Both Input and Output Returns.", H6 GND (power) "Power Ground Pins for Both Input and Output Returns.", H7 GND (power) "Power Ground Pins for Both Input and Output Returns.", H9 GND (power) "Power Ground Pins for Both Input and Output Returns.", H10 GND (power) "Power Ground Pins for Both Input and Output Returns.", H11 GND (power) "Power Ground Pins for Both Input and Output Returns.", H12 GND (power) "Power Ground Pins for Both Input and Output Returns.", J1 GND (power) "Power Ground Pins for Both Input and Output Returns.", J5 GND (power) "Power Ground Pins for Both Input and Output Returns.", J8 GND (power) "Power Ground Pins for Both Input and Output Returns.", J12 GND (power) "Power Ground Pins for Both Input and Output Returns.", K1 GND (power) "Power Ground Pins for Both Input and Output Returns.", K5 GND (power) "Power Ground Pins for Both Input and Output Returns.", K6 GND (power) "Power Ground Pins for Both Input and Output Returns.", K7 GND (power) "Power Ground Pins for Both Input and Output Returns.", K8 GND (power) "Power Ground Pins for Both Input and Output Returns.", K12 GND (power) "Power Ground Pins for Both Input and Output Returns.", L1 GND (power) "Power Ground Pins for Both Input and Output Returns.", L12 GND (power) "Power Ground Pins for Both Input and Output Returns.", M1 GND (power) "Power Ground Pins for Both Input and Output Returns.", M12 GND (power) "Power Ground Pins for Both Input and Output Returns."